# Altium footprint library 522711279.PcbLib: 1 footprints
Each footprint in its own frame and in the unit in brackets; x right, y up, seen from the top. Pads: shape width x height; smd on the part's side, far side on the other; paste and mask are expansions set on the pad; w line width, h text height; cw(c..) or ccw(c..) is an arc to the next point about the centre after c.
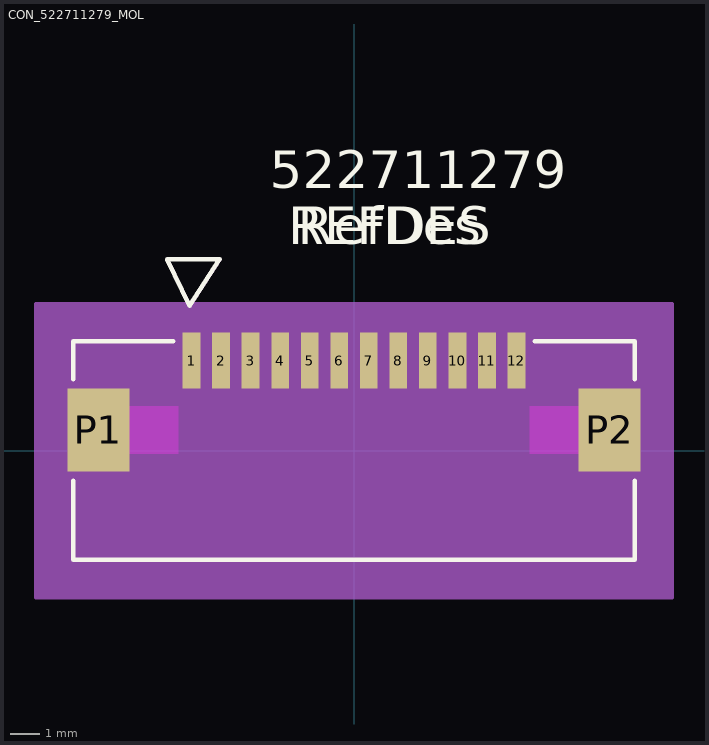
[diagram p0: the footprint, top view; thin cyan lines are the x and y axes]

## CON_522711279_MOL [mm]
pads (14):
  rect 0.6x1.9 smd paste+0 mask+0.076: 1(-5.5,3.05) 2(-4.5,3.05) 3(-3.5,3.05) 4(-2.5,3.05) 5(-1.5,3.05) 6(-0.5,3.05) 7(0.5,3.05) 8(1.5,3.05) 9(2.5,3.05) 10(3.5,3.05) 11(4.5,3.05) 12(5.5,3.05)
  rect 2.1x2.8 smd paste+0 mask+0.076: P1(-8.65,0.7) P2(8.65,0.7)
Top Overlay:
  lines w0.152: -9.5,-1.018 -9.5,-3.7 9.5,-3.7 9.5,-1.018 ; -9.5,2.417 -9.5,3.7 -6.117,3.7 ; 6.118,3.7 9.5,3.7 9.5,2.417 ; -6.325,6.479 -5.563,4.904 -4.547,6.479 -6.325,6.479
  text "RefDes" at -1.905,6.985 h1.27
  text "522711279" at -2.857,8.89 h1.27
  text "REFDES" at -2.222,6.985 h1.27
Keep-Out Layer:
  region: 5.95,-0.1 5.95,1.5 7.6,1.5 7.6,-0.1
  region: -5.95,-0.1 -5.95,1.5 -7.6,1.5 -7.6,-0.1
Mechanical 13:
  lines w0.127: -9.5,-3.7 -9.5,3.7 9.5,3.7 9.5,-3.7 -9.5,-3.7 ; -6.325,6.479 -5.563,4.904 -4.547,6.479 -6.325,6.479
  text "RefDes2" at -2.222,6.985 h1.27
  text "522711279" at -2.857,8.89 h1.27
Mechanical 15:
  region: 10.77,4.97 -10.77,4.97 -10.77,-4.97 10.77,-4.97
  lines w0.127: -10.77,-4.97 10.77,-4.97 10.77,4.97 -10.77,4.97 -10.77,-4.97
3D body "0522711279.stp": height 3.01, standoff 0.01, extent -9.5,-3.749 9.5,3.651